# Altium footprint library Sensors.PcbLib: 6 footprints
Each footprint in its own frame and in the unit in brackets; x right, y up, seen from the top. Pads: shape width x height; smd on the part's side, far side on the other; paste and mask are expansions set on the pad; w line width, h text height; cw(c..) or ccw(c..) is an arc to the next point about the centre after c.
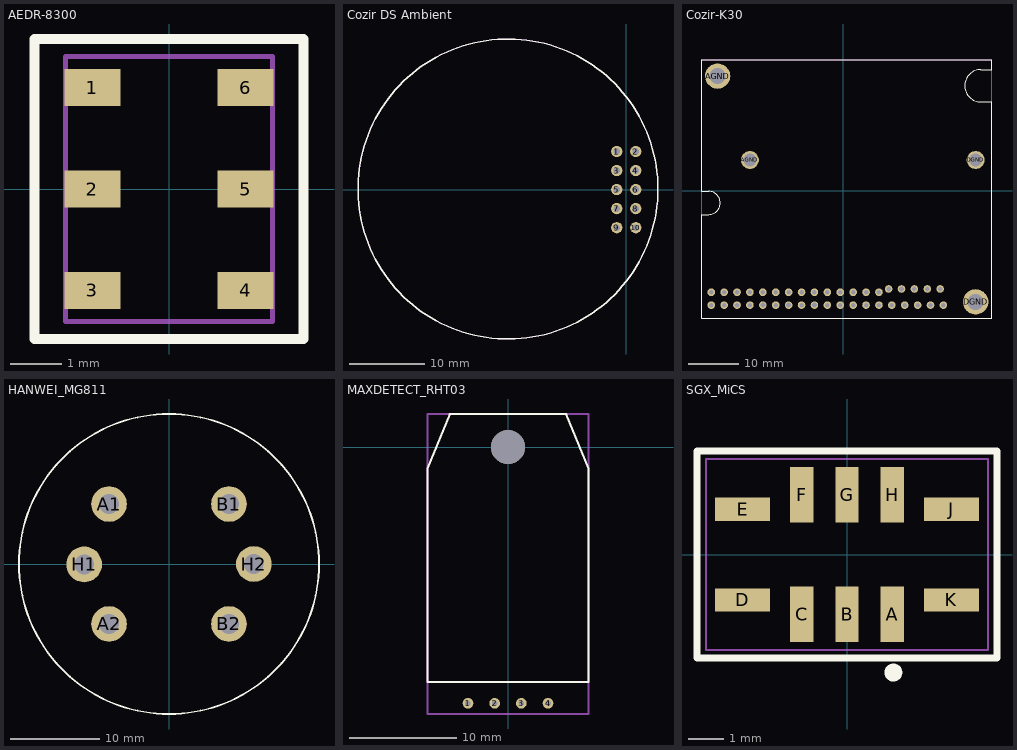
[diagram p0: the footprints below, top view; thin cyan lines are the x and y axes]

## AEDR-8300 [mm] "Avago"
height 1.6
pads (6):
  rect 1.08x0.72 smd: 1(-1.48,1.96) 2(-1.48,0) 3(-1.48,-1.96) 4(1.48,-1.96) 5(1.48,0) 6(1.48,1.96)
Top Overlay:
  lines w0.2: -2.6,-2.9 2.6,-2.9 2.6,2.9 -2.6,2.9 -2.6,-2.9
15. Courtyard TOP:
  lines w0.1: -2,-2.56 2,-2.56 2,2.56 -2,2.56 -2,-2.56
  text ".designator" at 0.5,-1 h1

## Cozir DS Ambient [mm] "CO2 sensor"
height 12.5
pads (10):
  round 1.5 hole 0.9: 1(-1.27,5.08) 2(1.27,5.08) 3(-1.27,2.54) 4(1.27,2.54) 5(-1.27,0) 6(1.27,0) 7(-1.27,-2.54) 8(1.27,-2.54) 9(-1.27,-5.08) 10(1.27,-5.08)
Top Overlay:
  circle w0.2: c-15.77,0.08 r20
15. Courtyard TOP:
  circle w0.1: c-15.77,0.08 r20
  text ".designator" at -25.116,-3.42 h10

## Cozir-K30 [mm] "CO2 Meter module board"
height 12.5
pads (42):
  round 5 hole 3.17: AGND(-24.77,22.545) DGND(26.03,-21.905)
  round 3.54 hole 2.54: AGND(-18.42,6.035) DGND(26.03,6.035)
  round 1.5 hole 0.9: DIN0(-26.03,-20.005) DIN1(-23.49,-20.005) DIN2(-20.95,-20.005) DIN3(-23.49,-22.545) DIN4(-26.03,-22.545) DVCC(-13.33,-22.545) DVCC(19.68,-22.545) G0(-10.79,-20.005) G0(-5.71,-20.005) G0(6.99,-20.005) G0(16.51,-19.365) G0(17.14,-22.545) G+(13.97,-19.365) G+(14.6,-22.545) I2C_SCL(12.06,-22.545) I2C_SDA(9.52,-22.545) NC(-20.95,-22.545) OUT1(-3.17,-20.005) OUT2(-15.87,-20.005) OUT3(-18.41,-22.545) OUT4(-18.41,-20.005) R/T(-13.33,-20.005) R/T(19.05,-19.365) RXD(-8.25,-22.545) RXD(6.99,-22.545) RXD(11.43,-19.365) SERCLK(1.91,-22.545) SERIN(1.91,-20.005) SEROUT(-0.63,-20.005) STATUS(-3.17,-22.545) TXD(-8.25,-20.005) TXD(4.45,-20.005) TXD(8.89,-19.365) UC_ACK(-0.63,-22.545) UC_REQ(4.45,-22.545)
  round 1.5 hole 1: G0(-10.79,-22.545) G+(-5.71,-22.545) OUT1(-15.87,-22.545)
Top Overlay:
  lines w0.2: -27.94,-25.085 -27.94,-4.715 -26.54,-4.715 ccw(c-26.54,-2.425) -26.54,-0.135 -27.94,-0.135 -27.94,25.715 27.31,25.715 29.21,25.715 29.21,23.815 27.05,23.815 ccw(c27.05,20.635) 27.05,17.455 29.21,17.455 29.21,-25.085 -27.94,-25.085
15. Courtyard TOP:
  lines w0.1: -27.94,-25.085 29.21,-25.085 29.21,17.455 29.21,25.715 27.31,25.715 -27.94,25.715 -27.94,-4.715 -27.94,-25.085
  text ".designator" at -12.7,-5.08 h10

## HANWEI_MG811 [mm] "CO2 Sensor"
height 9.2
pads (6):
  round 4 hole 2.2: A1(-6.718,6.718) A2(-6.718,-6.718) B1(6.718,6.718) B2(6.718,-6.718) H1(-9.496,-0.05) H2(9.5,0)
Top Overlay:
  circle w0.2: c0,0 r16.8
15. Courtyard TOP:
  text ".designator" at 17.7,-35.8 h10

## MAXDETECT_RHT03 [mm] "Humidity and temperature sensor"
height 25.1
pads (5):
  round 1 hole 0.52: 1(-3.75,-24) 2(-1.25,-24) 3(1.25,-24) 4(3.75,-24)
  round 3.2 hole 3.2 unplated: ""(0,0)
Top Overlay:
  lines w0.2: -7.55,-2.05 -7.55,-22 7.55,-22 7.55,-2.05 ; -7.55,-2 -5.45,3.1 5.45,3.1 7.55,-2
15. Courtyard TOP:
  lines w0.2: -7.55,-25 -7.55,3.1 7.55,3.1 7.55,-25 -7.55,-25
  text ".designator" at -5.45,-14 h4

## SGX_MiCS [mm] "SGX MiCS Sensor package"
height 4
pads (10):
  rect 0.65x1.55 smd: A(1.27,-1.675) B(0,-1.675) C(-1.27,-1.675) F(-1.27,1.675) G(0,1.675) H(1.27,1.675)
  rect 1.55x0.65 smd: D(-2.925,-1.27) E(-2.925,1.27) J(2.925,1.27) K(2.925,-1.27)
Top Overlay:
  circle w0.25: c1.297,-3.302 r0.125
  lines w0.2: -4.2,-2.9 -4.2,2.9 4.2,2.9 4.2,-2.9 -4.2,-2.9
15. Courtyard TOP:
  lines w0.05: -3.95,-2.675 -3.95,2.675 3.95,2.675 3.95,-2.675 -3.95,-2.675
  text ".designator" at -2.286,-0.914 h2
  text "." at 1.194,-2.184 h1
3D body: height 4, standoff 0, extent -3.81,-2.54 3.81,2.54